# EAGLE library part 61000813321 (library Wurth_Elektronik2)
WR-PHD 2.54mm SMT Socket Header, 8 Pins=>Code : CON_BTB_SHD_2.54_1_SMT_61000813321 <http://katalog.we-online.de/media/images/eican/Con_BTB_SHD_2.54_1_SMT_6100xx11921_pf2.jpg> Details see: http://katalog.we-online.de/en/em/610_0xx_119_21 Created 2014-05-30, Karrer Zheng 2014 (C) Würth Elektronik
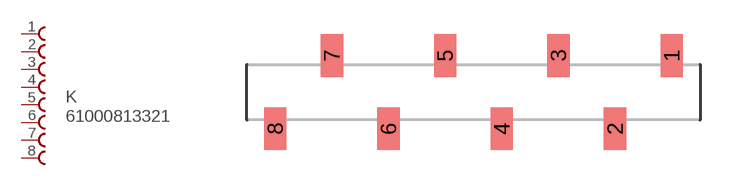
[diagram p205: symbol with the pads of 61000813321; footprint 61000813321]

Designator prefix K

## 61000813321  [61000813321]
1  1  pas
2  2  pas
3  3  pas
4  4  pas
5  5  pas
6  6  pas
7  7  pas
8  8  pas

## Footprint 61000813321 (pad centres in mm)
WR-PHD 2.54mm SMT Socket Header, 8 Pins
smd 1 x 1.91: 1 8.89,1.645; 2 6.35,-1.645; 3 3.81,1.645; 4 1.27,-1.645; 5 -1.27,1.645; 6 -3.81,-1.645; 7 -6.35,1.645; 8 -8.89,-1.645